# Altium schematic symbol library Connectors Rectangular 2.54 C-Grid III.SchLib: 13 symbols
Pins are listed as number, name and electrical type; pins without a type are passive.

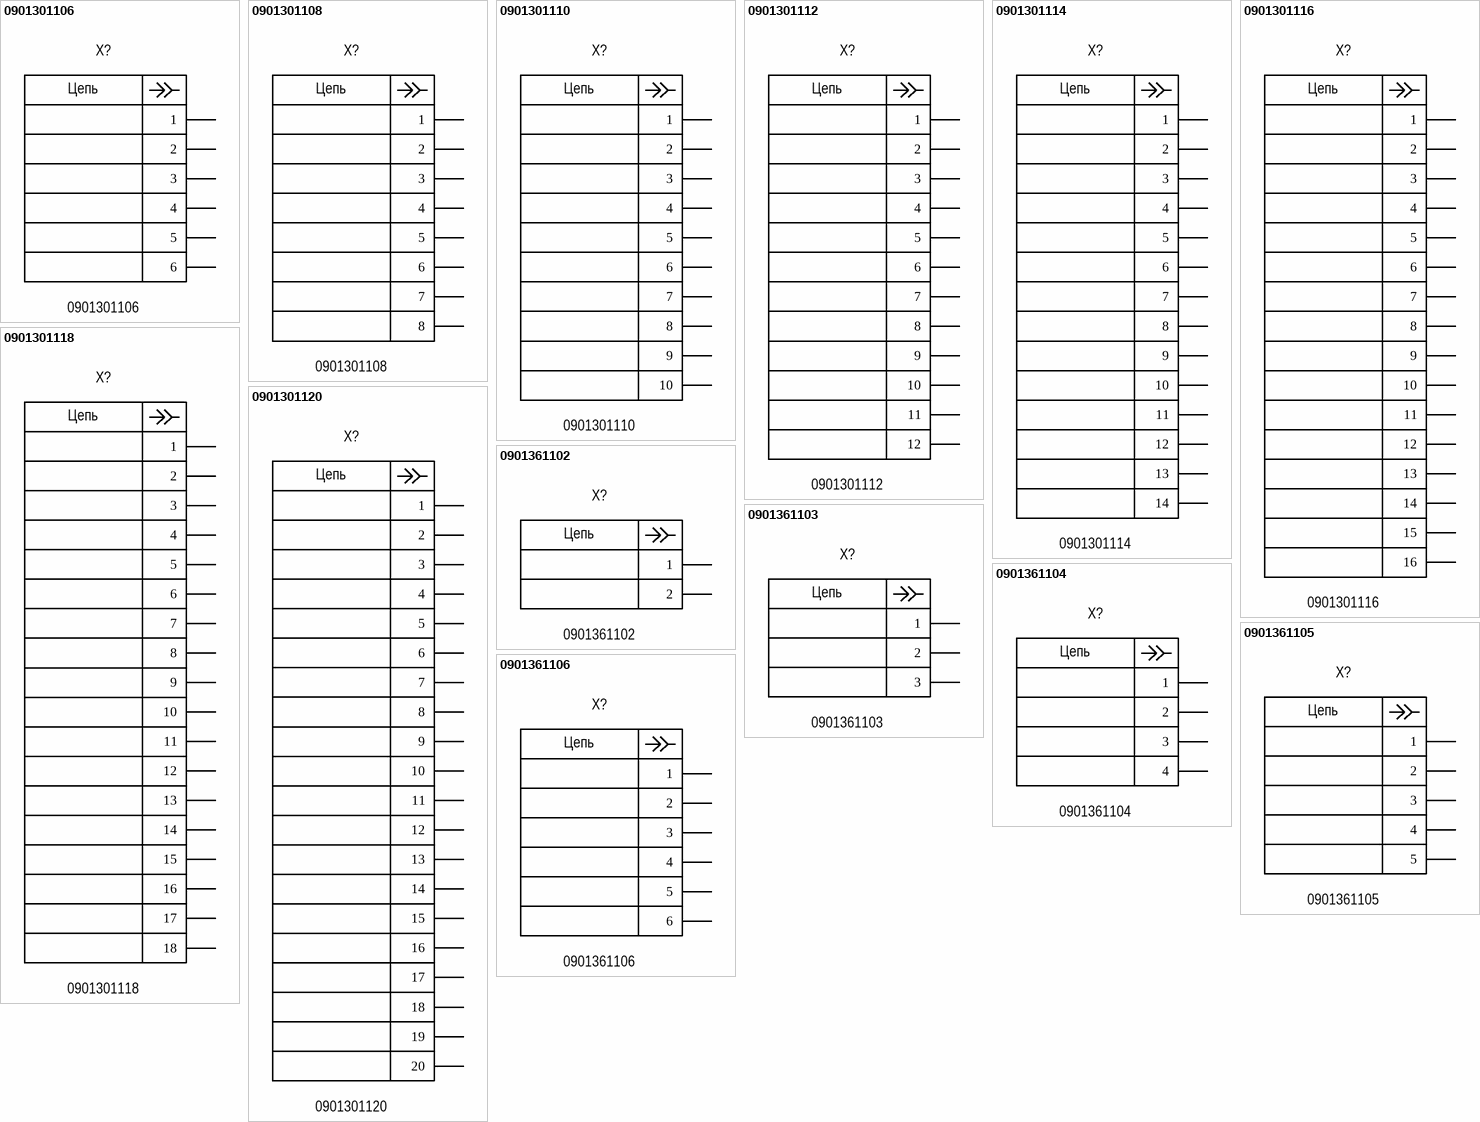
[diagram p0: symbols 0901301106 to 0901361106]

## 0901301106
designator X?
Connector Rectangular 2.54 M 6P2R Board C-Grid III; Manufacturer: Molex; Group: Mechanical; Pitch: 2.54mm; Positions: 6; Rows: 2; Current rating: 3.0A; Voltage rating: 350V; Placing: Vertical; Shrouding: Shrouded; Connector type: Header; Dimension: 9.75mm x 9.96mm; Operating temperature: -55°C +125°C; Mounting type: Through hole; Package: 0901301106; Part name: 0901301106; Height: 10.90mm; Insulation color: Black; Component: Connector Rectangular; Contact type: Male pin; Fastening type: Latch holder; Series: 90130; Connector style: Board; Series name: C-Grid III; System: Connector
footprint 0901301106 (Footprint not found)
pins: 1, 2, 3, 4, 5, 6
text: Цепь

## 0901301108
designator X?
Connector Rectangular 2.54 M 8P2R Board C-Grid III; Manufacturer: Molex; Group: Mechanical; Pitch: 2.54mm; Positions: 8; Rows: 2; Current rating: 3.0A; Voltage rating: 350V; Placing: Vertical; Shrouding: Shrouded; Connector type: Header; Dimension: 9.75mm x 12.50mm; Operating temperature: -55°C +125°C; Mounting type: Through hole; Package: 0901301108; Part name: 0901301108; Height: 10.90mm; Insulation color: Black; Component: Connector Rectangular; Contact type: Male pin; Fastening type: Latch holder; Series: 90130; Connector style: Board; Series name: C-Grid III; System: Connector
footprint 0901301108 (Footprint not found)
pins: 1, 2, 3, 4, 5, 6, 7, 8
text: Цепь

## 0901301110
designator X?
Connector Rectangular 2.54 M 10P2R Board C-Grid III; Manufacturer: Molex; Group: Mechanical; Pitch: 2.54mm; Positions: 10; Rows: 2; Current rating: 3.0A; Voltage rating: 350V; Placing: Vertical; Shrouding: Shrouded; Connector type: Header; Dimension: 9.75mm x 15.04mm; Operating temperature: -55°C +125°C; Mounting type: Through hole; Package: 0901301110; Part name: 0901301110; Height: 10.90mm; Insulation color: Black; Component: Connector Rectangular; Contact type: Male pin; Fastening type: Latch holder; Series: 90130; Connector style: Board; Series name: C-Grid III; System: Connector
footprint 0901301110 (Footprint not found)
pins: 1, 2, 3, 4, 5, 6, 7, 8, 9, 10
text: Цепь

## 0901301112
designator X?
Connector Rectangular 2.54 M 12P2R Board C-Grid III; Manufacturer: Molex; Group: Mechanical; Pitch: 2.54mm; Positions: 12; Rows: 2; Current rating: 3.0A; Voltage rating: 350V; Placing: Vertical; Shrouding: Shrouded; Connector type: Header; Dimension: 9.75mm x 17.58mm; Operating temperature: -55°C +125°C; Mounting type: Through hole; Package: 0901301112; Part name: 0901301112; Height: 10.90mm; Insulation color: Black; Component: Connector Rectangular; Contact type: Male pin; Fastening type: Latch holder; Series: 90130; Connector style: Board; Series name: C-Grid III; System: Connector
footprint 0901301112 (Footprint not found)
pins: 1, 2, 3, 4, 5, 6, 7, 8, 9, 10, 11, 12
text: Цепь

## 0901301114
designator X?
Connector Rectangular 2.54 M 14P2R Board C-Grid III; Manufacturer: Molex; Group: Mechanical; Pitch: 2.54mm; Positions: 14; Rows: 2; Current rating: 3.0A; Voltage rating: 350V; Placing: Vertical; Shrouding: Shrouded; Connector type: Header; Dimension: 9.75mm x 20.12mm; Operating temperature: -55°C +125°C; Mounting type: Through hole; Package: 0901301114; Part name: 0901301114; Height: 10.90mm; Insulation color: Black; Component: Connector Rectangular; Contact type: Male pin; Fastening type: Latch holder; Series: 90130; Connector style: Board; Series name: C-Grid III; System: Connector
footprint 0901301114 (Footprint not found)
pins: 1, 2, 3, 4, 5, 6, 7, 8, 9, 10, 11, 12, 13, 14
text: Цепь

## 0901301116
designator X?
Connector Rectangular 2.54 M 16P2R Board C-Grid III; Manufacturer: Molex; Group: Mechanical; Pitch: 2.54mm; Positions: 16; Rows: 2; Current rating: 3.0A; Voltage rating: 350V; Placing: Vertical; Shrouding: Shrouded; Connector type: Header; Dimension: 9.75mm x 22.66mm; Operating temperature: -55°C +125°C; Mounting type: Through hole; Package: 0901301116; Part name: 0901301116; Height: 10.90mm; Insulation color: Black; Component: Connector Rectangular; Contact type: Male pin; Fastening type: Latch holder; Series: 90130; Connector style: Board; Series name: C-Grid III; System: Connector
footprint 0901301116 (Footprint not found)
pins: 1, 2, 3, 4, 5, 6, 7, 8, 9, 10, 11, 12, 13, 14, 15, 16
text: Цепь

## 0901301118
designator X?
Connector Rectangular 2.54 M 18P2R Board C-Grid III; Manufacturer: Molex; Group: Mechanical; Pitch: 2.54mm; Positions: 18; Rows: 2; Current rating: 3.0A; Voltage rating: 350V; Placing: Vertical; Shrouding: Shrouded; Connector type: Header; Dimension: 9.75mm x 25.20mm; Operating temperature: -55°C +125°C; Mounting type: Through hole; Package: 0901301118; Part name: 0901301118; Height: 10.90mm; Insulation color: Black; Component: Connector Rectangular; Contact type: Male pin; Fastening type: Latch holder; Series: 90130; Connector style: Board; Series name: C-Grid III; System: Connector
footprint 0901301118 (Footprint not found)
pins: 1, 2, 3, 4, 5, 6, 7, 8, 9, 10, 11, 12, 13, 14, 15, 16, 17, 18
text: Цепь

## 0901301120
designator X?
Connector Rectangular 2.54 M 20P2R Board C-Grid III; Manufacturer: Molex; Group: Mechanical; Pitch: 2.54mm; Positions: 20; Rows: 2; Current rating: 3.0A; Voltage rating: 350V; Placing: Vertical; Shrouding: Shrouded; Connector type: Header; Dimension: 9.75mm x 27.74mm; Operating temperature: -55°C +125°C; Mounting type: Through hole; Package: 0901301120; Part name: 0901301120; Height: 10.90mm; Insulation color: Black; Component: Connector Rectangular; Contact type: Male pin; Fastening type: Latch holder; Series: 90130; Connector style: Board; Series name: C-Grid III; System: Connector
footprint 0901301120 (Footprint not found)
pins: 1, 2, 3, 4, 5, 6, 7, 8, 9, 10, 11, 12, 13, 14, 15, 16, 17, 18, 19, 20
text: Цепь

## 0901361102
designator X?
Connector Rectangular 2.54 M 2P Board C-Grid III; Manufacturer: Molex; Group: Mechanical; Pitch: 2.54mm; Positions: 2; Rows: 1; Current rating: 3.0A; Voltage rating: 350V; Placing: Vertical; Shrouding: Shrouded; Connector type: Header; Dimension: 7.21mm x 8.43.mm; Operating temperature: -55°C +125°C; Mounting type: Through hole; Package: 0901361102; Part name: 0901361102; Height: 10.90mm; Insulation color: Black; Component: Connector Rectangular; Contact type: Male pin; Fastening type: Latch holder; Series: 90136; Connector style: Board; Series name: C-Grid III; System: Connector
footprint 0901361102 (Footprint not found)
pins: 1, 2
text: Цепь

## 0901361103
designator X?
Connector Rectangular 2.54 M 3P Board C-Grid III; Manufacturer: Molex; Group: Mechanical; Pitch: 2.54mm; Positions: 3; Rows: 1; Current rating: 3.0A; Voltage rating: 350V; Placing: Vertical; Shrouding: Shrouded; Connector type: Header; Dimension: 7.21mm x 10.97.mm; Operating temperature: -55°C +125°C; Mounting type: Through hole; Package: 0901361103; Part name: 0901361103; Height: 10.90mm; Insulation color: Black; Component: Connector Rectangular; Contact type: Male pin; Fastening type: Latch holder; Series: 90136; Connector style: Board; Series name: C-Grid III; System: Connector
footprint 0901361103 (Footprint not found)
pins: 1, 2, 3
text: Цепь

## 0901361104
designator X?
Connector Rectangular 2.54 M 4P Board C-Grid III; Manufacturer: Molex; Group: Mechanical; Pitch: 2.54mm; Positions: 4; Rows: 1; Current rating: 3.0A; Voltage rating: 350V; Placing: Vertical; Shrouding: Shrouded; Connector type: Header; Dimension: 7.21mm x 13.51mm; Operating temperature: -55°C +125°C; Mounting type: Through hole; Package: 0901361104; Part name: 0901361104; Height: 10.90mm; Insulation color: Black; Component: Connector Rectangular; Contact type: Male pin; Fastening type: Latch holder; Series: 90136; Connector style: Board; Series name: C-Grid III; System: Connector
footprint 0901361104 (Footprint not found)
pins: 1, 2, 3, 4
text: Цепь

## 0901361105
designator X?
Connector Rectangular 2.54 M 5P Board C-Grid III; Manufacturer: Molex; Group: Mechanical; Pitch: 2.54mm; Positions: 5; Rows: 1; Current rating: 3.0A; Voltage rating: 350V; Placing: Vertical; Shrouding: Shrouded; Connector type: Header; Dimension: 7.21mm x 16.05mm; Operating temperature: -55°C +125°C; Mounting type: Through hole; Package: 0901361105; Part name: 0901361105; Height: 10.90mm; Insulation color: Black; Component: Connector Rectangular; Contact type: Male pin; Fastening type: Latch holder; Series: 90136; Connector style: Board; Series name: C-Grid III; System: Connector
footprint 0901361105 (Footprint not found)
pins: 1, 2, 3, 4, 5
text: Цепь

## 0901361106
designator X?
Connector Rectangular 2.54 M 6P Board C-Grid III; Manufacturer: Molex; Group: Mechanical; Pitch: 2.54mm; Positions: 6; Rows: 1; Current rating: 3.0A; Voltage rating: 350V; Placing: Vertical; Shrouding: Shrouded; Connector type: Header; Dimension: 7.21mm x 18.59.mm; Operating temperature: -55°C +125°C; Mounting type: Through hole; Package: 0901361106; Part name: 0901361106; Height: 10.90mm; Insulation color: Black; Component: Connector Rectangular; Contact type: Male pin; Fastening type: Latch holder; Series: 90136; Connector style: Board; Series name: C-Grid III; System: Connector
footprint 0901361106 (Footprint not found)
pins: 1, 2, 3, 4, 5, 6
text: Цепь